# Altium schematic symbol library MF_MiscLib.schlib: 178 symbols (part 1 of 3)
Pins are listed as number, name and electrical type; pins without a type are passive.

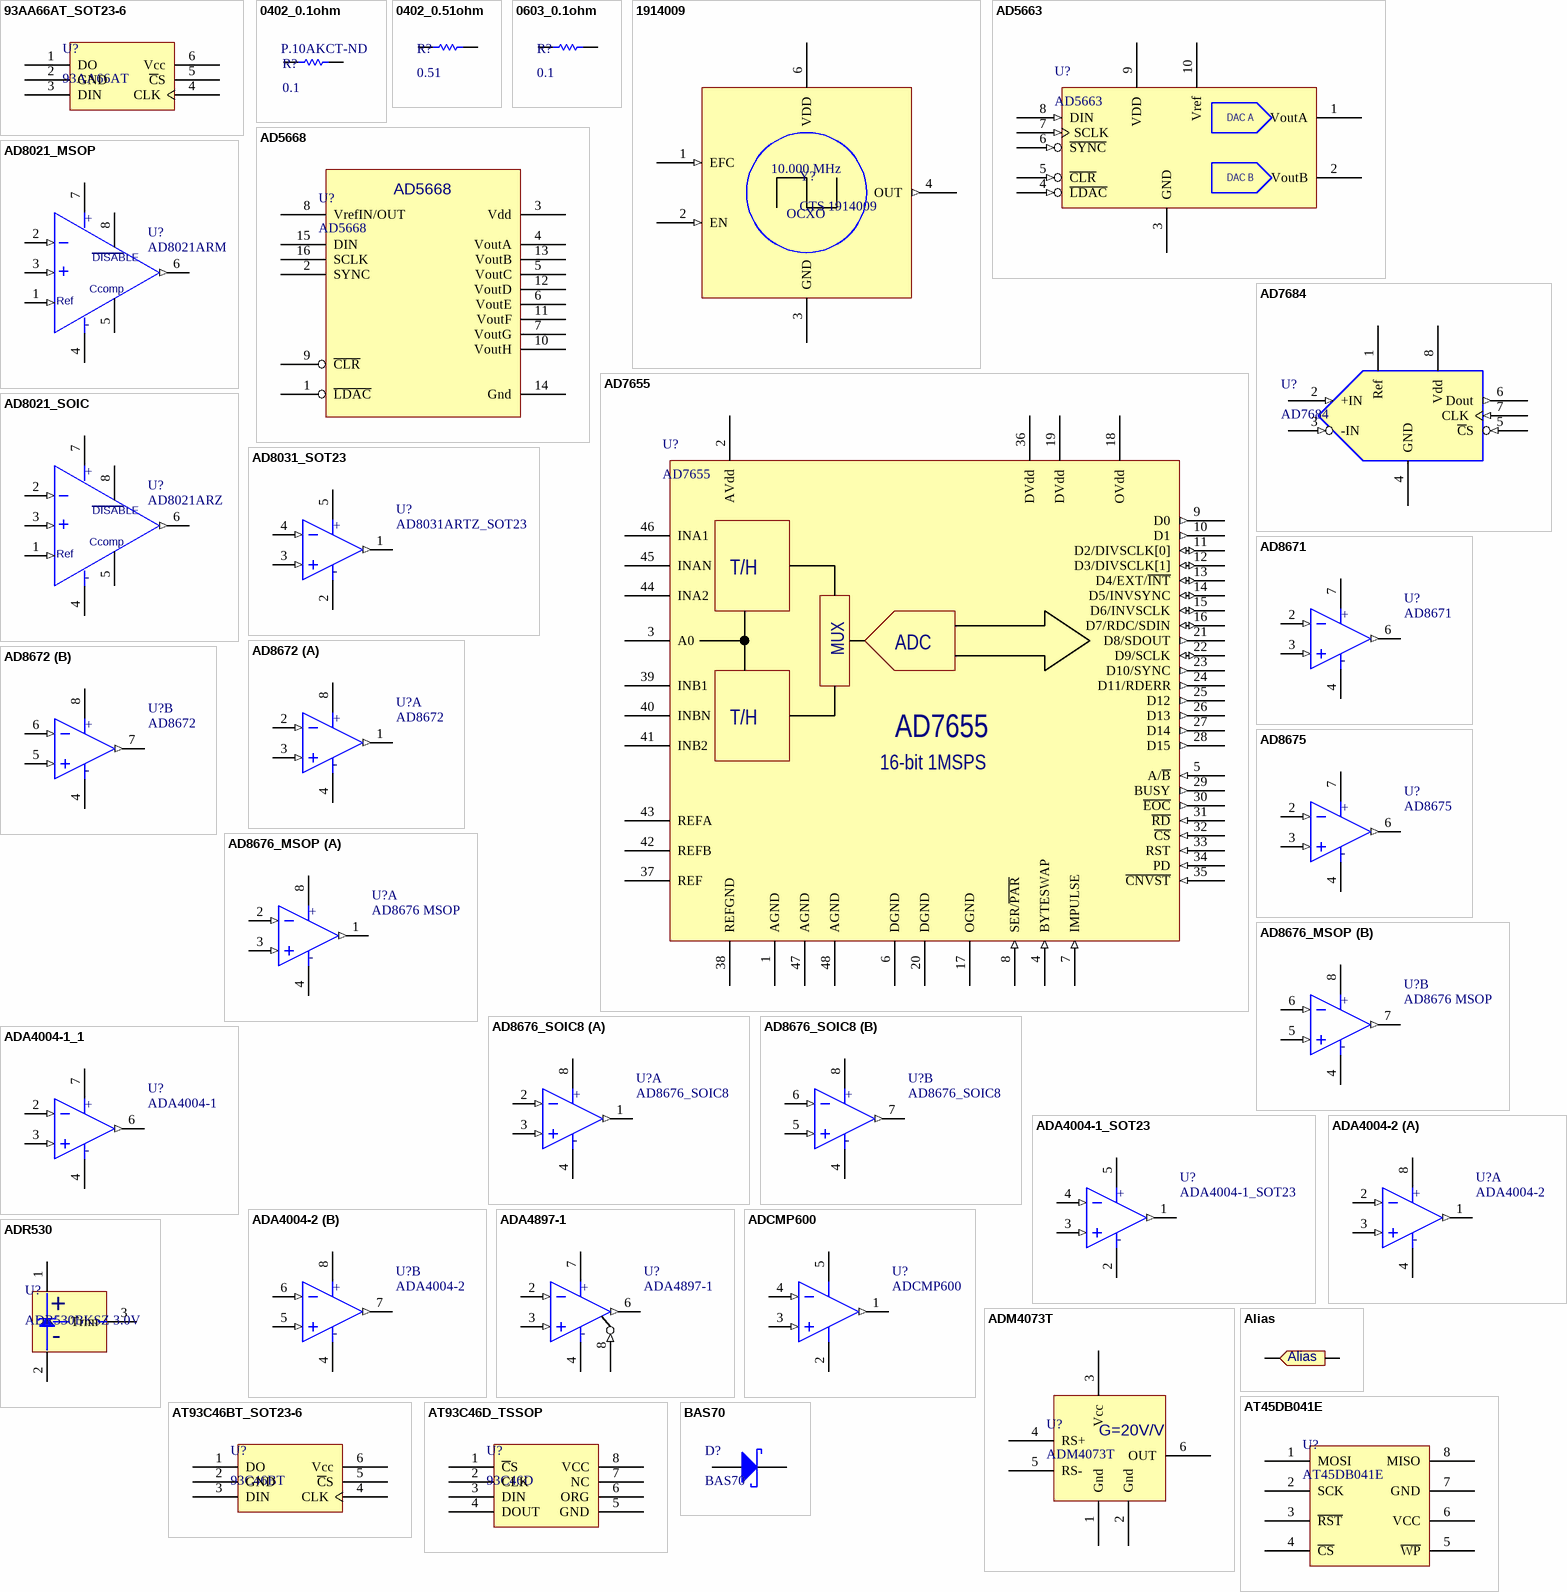
[diagram p0: symbols 93AA66AT_SOT23-6 to BAS70]

## 93AA66AT_SOT23-6
designator U?, comment 93AA66AT
IC EEPROM 4KBIT 2MHZ SOT23-6; Manufacturer: Microchip Technology; Manufacturer PN: 93AA66AT-I/OT; ComponentLink1Description: Datasheet; ComponentLink1URL: http://www.microchip.com/mymicrochip/filehandler.aspx?ddocname=en011819; Supplier 1: Digi-Key; Supplier Part Number 1: 93AA66AT-I/OTCT-ND
footprint SOT-23-OT6_M (SOT23, 6-Leads, Body 2.9x1.7mm, Pitch 0.95mm, Lead Span 2.8mm, IPC Low Density)
pins: 1 DO, 2 GND, 3 DIN, 4 CLK, 5 ~{C}S, 6 Vcc

## 0402_0.1ohm
designator R?, comment 0.1  Supplier Part Number 4: P.10AKCT-ND
RES .1 OHM 1/6W 1% 0402 SMD; Manufacturer: Panasonic; Manufacturer PN: ERJ-2BSFR10X; Value: 0.1; Supplier 1: Arrow; Supplier Part Number 1: 41790361S8773345N1386; Supplier 2: Newark; Supplier Part Number 2: 53W4137; Supplier 3: Allied; Supplier Part Number 3: 70260854; Supplier 4: Digi-Key
footprint RES0402
pins: 1, 2
1 alternate drawing of the same symbol

## 0402_0.51ohm
designator R?, comment 0.51
RES .51 OHM 1/6W 1% 0402 SMD; Manufacturer: Panasonic; Manufacturer PN: ERJ-2BQF5R51X; Value: 0.51; Supplier 1: Arrow; Supplier 2: Digi-Key; Supplier 3: Mouser; Supplier Part Number 1: 41790341S8020934N1386; Supplier Part Number 2: P.51AKCT-ND; Supplier Part Number 3: 667-ERJ-2BQFR51X
footprint RES0402
pins: 1, 2
1 alternate drawing of the same symbol

## 0603_0.1ohm
designator R?, comment 0.1
RES 0.1 OHM 1/10W 1% 0603 SMD; Manufacturer: Panasonic; Manufacturer PN: ERJ-3RSFR10V; Value: 0.1; Supplier 1: Arrow; Supplier Part Number 1: 41791943S7275321N1386; Supplier 2: Digi-Key; Supplier Part Number 2: P.10AJCT-ND; Supplier 3: Allied; Supplier Part Number 3: 70260898; Supplier 4: Newark; Supplier Part Number 4: 15R1445
footprint RES0603 (Chip Resistor, 2-Leads, Body 1.6x0.8mm, IPC Medium Density)
pins: 1, 2
1 alternate drawing of the same symbol

## 1914009
designator Y?, comment CTS 1914009
OCXO 10.000MHz 3.3V 9x14mm; Manufacturer: CTS; Manufacturer PN: 1914009
footprint CTS_OCXO
pins: 1 EFC (in), 2 EN (in), 3 GND (power), 4 OUT (out), 6 VDD (power)
text: 10.000 MHz; OCXO

## AD5663
designator U?
16-bit Dual DAC; Manufacturer: Analog Devices; Manufacturer PN: AD5663ARMZ; Supplier 1: Digi-Key; Supplier Part Number 1: AD5663ARMZ-ND; ComponentLink1URL: http://www.analog.com/static/imported-files/data_sheets/AD5663.pdf; ComponentLink1Description: Datasheet
footprint RM10 (TSSOP, 10-Leads, Body 3.1x3.1mm (max), Pitch 0.50mm, IPC Medium Density)
pins: 1 VoutA, 2 VoutB "Analog Output Voltage from DAC B. The output amplifier has rail-to-rail operation.", 3 GND (power) "Ground Reference Point for All Circuitry on the Part.", 4 ~{LDAC} (in) "Pulsing this pin low allows any or all DAC registers to be updated if the input registers have new data.", 5 ~{CLR} (in) "Asynchronous Clear Input. The CLR input is falling edge sensitive. While CLR is low, all LDAC pulses are ignored.", 6 ~{SYNC} (in) "Active Low Control Input. This is the frame synchronization signal for the input data.", 7 SCLK (in) "Serial Clock Input. Data is clocked into the input shift register on the falling edge of the serial clock input.", 8 DIN (in) "Serial Data Input. This device has a 24-bit shift register. Data is clocked into the register on the falling edge", 9 VDD (power) "Power Supply Input. These parts can be operated from 2.7 V to 5.5 V", 10 Vref "Reference Voltage Input."
text: DAC A; DAC B

## AD5668
designator U?
DAC, Octal 16 bit, Voltage Output, SPI TSSOP-16; Manufacturer: Analog Devices; Manufacturer PN: AD5668BRUZ-1; ComponentLink1Description: Datasheet; ComponentLink1URL: http://www.analog.com/static/imported-files/data_sheets/AD5628_5648_5668.pdf; Supplier 1: Digi-Key; Supplier 2: Arrow; Supplier Part Number 1: AD5668BRUZ-1-ND; Supplier Part Number 2: 42723177S8349773N2771
footprint RU-16 (TSOP, 16-Leads, Body 5.1x4.5mm (max), Pitch 0.65mm, IPC Medium Density)
pins: 1 ~{LDAC}, 2 SYNC, 3 Vdd, 4 VoutA, 5 VoutC, 6 VoutE, 7 VoutG, 8 VrefIN/OUT, 9 ~{CLR}, 10 VoutH, 11 VoutF, 12 VoutD, 13 VoutB, 14 Gnd, 15 DIN, 16 SCLK

## AD7655
designator U?
A/D 4ch 16bit 1MSPS; Manufacturer: Analog Devices; Manufacturer PN: AD7655AST; ComponentLink1URL: http://www.analog.com/static/imported-files/data_sheets/AD7655.pdf; ComponentLink1Description: Datasheet; Supplier 1: Digi-Key; Supplier 2: Newark; Supplier Part Number 1: AD7655ASTZ-ND; Supplier Part Number 2: 19M8843
footprint ADI_ST-48_LQFP48 (LQFP, 48-Leads, Body 9.2x9.2mm (max), Pitch 0.50mm, IPC Medium Density)
pins: 1 AGND (power), 2 AVdd (power), 3 A0, 4 BYTESWAP (in), 5 A/~{B} (in), 6 DGND (power), 7 IMPULSE (in), 8 SER/~{PAR} (in), 9 D0 (out), 10 D1 (out), 11 D2/DIVSCLK[0] (io), 12 D3/DIVSCLK[1] (io), 13 D4/EXT/~{INT} (io), 14 D5/INVSYNC (io), 15 D6/INVSCLK (io), 16 D7/RDC/SDIN (io), 17 OGND (power), 18 OVdd (power), 19 DVdd (power), 20 DGND (power), 21 D8/SDOUT (out), 22 D9/SCLK (io), 23 D10/SYNC (out), 24 D11/RDERR (out), 25 D12 (out), 26 D13 (out), 27 D14 (out), 28 D15 (out), 29 BUSY (out), 30 ~{EOC} (out), 31 ~{RD} (in), 32 ~{CS} (in), 33 RST (in), 34 PD (in), 35 ~{CNVST} (in), 36 DVdd (power), 37 REF, 38 REFGND, 39 INB1, 40 INBN, 41 INB2, 42 REFB, 43 REFA, 44 INA2, 45 INAN, 46 INA1, 47 AGND (power), 48 AGND (power)
text: T/H; MUX; ADC; 16-bit 1MSPS

## AD7684
designator U?
ADC 16-bit 100kSPS; Manufacturer: Analog Devices; Manufacturer PN: AD7684BRMZ; ComponentLink1Description: Datasheet; ComponentLink1URL: http://www.analog.com/static/imported-files/data_sheets/AD7684.pdf; Supplier 1: Digi-Key; Supplier 2: Newark; Supplier Part Number 1: AD7684BRMZ-ND; Supplier Part Number 2: 59K5229
footprint TSOP65P490X95-8N (TSOP, 8-Leads, Body 3.2x2.8mm (max), Pitch 0.65mm, IPC Medium Density)
pins: 1 Ref (power), 2 +IN (in), 3 -IN (in), 4 GND (power), 5 ~{C}S (in), 6 Dout (out), 7 CLK (in), 8 Vdd (power)

## AD8021_MSOP
designator U?, comment AD8021ARM
Op Amp, High speed for 16-bit; Manufacturer: Analog Devices; ComponentLink1Description: Datasheet; ComponentLink1URL: http://www.analog.com/static/imported-files/data_sheets/AD8021.pdf; Manufacturer PN: AD8021ARM
footprint RM-8_MSOP-8
pins: 1 Ref (in), 2 IN- (in), 3 IN+ (in), 4 V- (power), 5 Ccomp, 6 OUT (out), 7 V+ (power), 8 ~{DISABLE}
text: +; DISABLE; -

## AD8021_SOIC
designator U?, comment AD8021ARZ
Op Amp, High speed for 16-bit; Manufacturer: Analog Devices; ComponentLink1Description: Datasheet; ComponentLink1URL: http://www.analog.com/static/imported-files/data_sheets/AD8021.pdf; Manufacturer PN: AD8021ARZ
footprint R-8_M (8-Pin Narrow Body Small Outline Integrated Circuit 1.27 mm Pitch, IPC Low Density)
pins: 1 Ref (in), 2 IN- (in), 3 IN+ (in), 4 V- (power), 5 Ccomp, 6 OUT (out), 7 V+ (power), 8 ~{DISABLE}
text: +; DISABLE; -

## AD8031_SOT23
designator U?, comment AD8031ARTZ_SOT23
Op Amp, 80MHz RRIO, SOT-23; Manufacturer: Analog Devices; ComponentLink1Description: Datasheet; ComponentLink1URL: http://www.analog.com/static/imported-files/data_sheets/AD8031_8032.pdf; Manufacturer PN: AD8031ARTZ; Supplier 1: Newark; Supplier Part Number 1: 23X6279; Supplier 2: Digi-Key; Supplier Part Number 2: AD8031ARTZ-REEL7DKR-ND
footprint RJ5 (SOT23, 5-Leads, Body 3.0x3.0mm (max), Pitch 0.95mm, IPC Medium Density)
pins: 1 OUT (out), 2 V- (power), 3 IN+ (in), 4 IN- (in), 5 V+ (power)
text: +; -

## AD8671
designator U?
Op Amp, Very low noise, Very high precision; ComponentLink1Description: Datasheet; ComponentLink1URL: http://www.analog.com/static/imported-files/data_sheets/AD8671_8672_8674.pdf; Supplier 1: Digi-Key; Supplier 2: Newark; Supplier Part Number 1: AD8671ARZ-ND; Supplier Part Number 2: 19M0998
footprint R-8_M (8-Pin Narrow Body Small Outline Integrated Circuit 1.27 mm Pitch, IPC Low Density)
pins: 2 IN- (in), 3 IN+ (in), 4 V- (power), 6 OUT (out), 7 V+ (power)
text: +; -

## AD8672
designator U?
Op Amp, Dual, Very low noise, Very high precision; ComponentLink1Description: Datasheet; ComponentLink1URL: http://www.analog.com/static/imported-files/data_sheets/AD8671_8672_8674.pdf; Supplier 1: Newark; Supplier 2: Digi-Key; Supplier Part Number 1: 19M0999; Supplier Part Number 2: AD8672ARZ-ND
footprint R-8_M (8-Pin Narrow Body Small Outline Integrated Circuit 1.27 mm Pitch, IPC Low Density)
part A pins: 1 OUTA (out), 2 INA- (in), 3 INA+ (in), 4 V- (power), 8 V+ (power)
part B pins: 4 V- (power), 5 INB+ (in), 6 INB- (in), 7 OUTB (out), 8 V+ (power)
part A text: +; -
part B text: +; -

## AD8675
designator U?
Op Amp, Very low noise, Very high precision; Manufacturer: Analog Devices; Manufacturer PN: AD8675ARZ; ComponentLink1Description: Datasheet; ComponentLink1URL: http://www.analog.com/static/imported-files/data_sheets/AD8675.pdf
footprint R-8_M (8-Pin Narrow Body Small Outline Integrated Circuit 1.27 mm Pitch, IPC Low Density)
pins: 2 IN- (in), 3 IN+ (in), 4 V- (power), 6 OUT (out), 7 V+ (power)
text: +; -

## AD8676_MSOP
designator U?, comment AD8676 MSOP
Op Amp, Dual, Very low noise, Very high precision RM-8; Manufacturer: Analog Devices; Manufacturer PN: AD8676ARMZ; TPN: 167-1013-00; ComponentLink1Description: Datasheet; ComponentLink1URL: http://www.analog.com/static/imported-files/data_sheets/AD8676.pdf; Supplier 1: Digi-Key; Supplier 2: Arrow; Supplier 3: Newark; Supplier Part Number 1: AD8676ARMZ-REELCT-ND; Supplier Part Number 2: 46992726S8254856N2771; Supplier Part Number 3: 45P6471
footprint RM-8_MSOP-8
part A pins: 1 OUTA (out), 2 INA- (in), 3 INA+ (in), 4 V- (power), 8 V+ (power)
part B pins: 4 V- (power), 5 INB+ (in), 6 INB- (in), 7 OUTB (out), 8 V+ (power)
part A text: +; -
part B text: +; -

## AD8676_SOIC8
designator U?
Op Amp, Dual, Very low noise, Very high precision SOIC-8; Manufacturer: Analog Devices; Manufacturer PN: AD8676ARZ; TPN: 167-1013-00; ComponentLink1Description: Datasheet; ComponentLink1URL: http://www.analog.com/static/imported-files/data_sheets/AD8676.pdf; Supplier 1: Newark; Supplier Part Number 1: 28M4146; Supplier 2: Digi-Key; Supplier Part Number 2: AD8676ARZ-ND; Supplier 3: Mouser; Supplier Part Number 3: 584-AD8676ARZ; Supplier 4: Arrow; Supplier Part Number 4: 43007594S9299385N2771
footprint R-8_M (8-Pin Narrow Body Small Outline Integrated Circuit 1.27 mm Pitch, IPC Low Density)
part A pins: 1 OUTA (out), 2 INA- (in), 3 INA+ (in), 4 V- (power), 8 V+ (power)
part B pins: 4 V- (power), 5 INB+ (in), 6 INB- (in), 7 OUTB (out), 8 V+ (power)
part A text: +; -
part B text: +; -

## ADA4004-1_1
designator U?, comment ADA4004-1
Op Amp, Very low noise, Very high precision, SOIC-8; ComponentLink1Description: Datasheet; ComponentLink1URL: http://www.analog.com/static/imported-files/data_sheets/ADA4004-1_4004-2_4004-4.pdf; Supplier 1: Digi-Key; Supplier Part Number 1: ADA4004-1ARZ-ND
footprint R-8_M (8-Pin Narrow Body Small Outline Integrated Circuit 1.27 mm Pitch, IPC Low Density)
pins: 2 IN- (in), 3 IN+ (in), 4 V- (power), 6 OUT (out), 7 V+ (power)
text: +; -

## ADA4004-1_SOT23
designator U?
Op Amp, Very low noise, Very high precision, SOT-23; ComponentLink1Description: Datasheet; ComponentLink1URL: http://www.analog.com/static/imported-files/data_sheets/ADA4004-1_4004-2_4004-4.pdf; Supplier 1: Digi-Key; Supplier Part Number 1: ADA4004-1ARZ-ND
footprint RJ5 (SOT23, 5-Leads, Body 3.0x3.0mm (max), Pitch 0.95mm, IPC Medium Density)
pins: 1 OUT (out), 2 V- (power), 3 IN+ (in), 4 IN- (in), 5 V+ (power)
text: +; -

## ADA4004-2
designator U?
Op Amp, Dual, Very low noise, Very high precision, SOIC-8; ComponentLink1Description: Datasheet; ComponentLink1URL: http://www.analog.com/static/imported-files/data_sheets/AD8671_8672_8674.pdf; Supplier 1: Digi-Key; Supplier 2: Newark; Supplier Part Number 1: ADA4004-2ARZ-ND; Supplier Part Number 2: 34P2953
footprint R-8_M (8-Pin Narrow Body Small Outline Integrated Circuit 1.27 mm Pitch, IPC Low Density)
part A pins: 1 OUTA (out), 2 INA- (in), 3 INA+ (in), 4 V- (power), 8 V+ (power)
part B pins: 4 V- (power), 5 INB+ (in), 6 INB- (in), 7 OUTB (out), 8 V+ (power)
part A text: +; -
part B text: +; -

## ADA4897-1
designator U?
Op Amp, High Speed, Low noise, R2R output; ComponentLink1Description: Datasheet; ComponentLink1URL: http://www.analog.com/static/imported-files/data_sheets/ADA4896-2_4897-1_4897-2.PDF; Supplier 1: Digi-Key; Supplier 2: Newark; Supplier Part Number 1: ADA4897-1ARZ-ND; Supplier Part Number 2: 58T8818
footprint R-8_M (8-Pin Narrow Body Small Outline Integrated Circuit 1.27 mm Pitch, IPC Low Density)
pins: 2 IN- (in), 3 IN+ (in), 4 V- (power), 6 OUT (out), 7 V+ (power), 8 ~{DIS} (in)
text: +; -

## ADCMP600
designator U?
Comparator 3.5ns; ComponentLink1Description: Datasheet; ComponentLink1URL: http://www.analog.com/static/imported-files/data_sheets/ADCMP600_601_602.pdf; Supplier 1: Digi-Key; Supplier 2: Newark; Supplier Part Number 1: ADCMP600BRJZ-REEL7CT-ND; Supplier Part Number 2: 28M3532
footprint RJ5 (SOT23, 5-Leads, Body 3.0x3.0mm (max), Pitch 0.95mm, IPC Medium Density)
pins: 1 OUT (out), 2 GND (power), 3 IN+ (in), 4 IN- (in), 5 VCC (power)

## ADM4073T
designator U?
Precision current sense amplifier SOT23-6 Gain=20V/V +2V-+28V; Manufacturer: Analog Devices; Manufacturer PN: ADM4073TWRJZ; ComponentLink1Description: Datasheet; ComponentLink1URL: http://www.analog.com/static/imported-files/data_sheets/ADM4073.pdf; Supplier 1: Newark; Supplier Part Number 1: 67W2656; Supplier 2: Digi-Key; Supplier Part Number 2: ADM4073TWRJZ-REEL7CT-ND
footprint SOT95P275X110-6N (SOT23, 6-Leads, Body 3.1x3.0mm (max), Pitch 0.95mm, IPC Medium Density)
pins: 1 Gnd, 2 Gnd, 3 Vcc, 4 RS+, 5 RS-, 6 OUT
text: G=20V/V

## ADR530
designator U?, comment ADR530BKSZ 3.0V
VREF SHUNT PREC 3V SC-70-3; Manufacturer: Analog Devices; Manufacturer PN: ADR530BKSZ-REEL7; TPN: 167-0977-00; ComponentLink1Description: Datasheet; ComponentLink1URL: http://www.analog.com/static/imported-files/data_sheets/ADR520_525_530_540_550.pdf; Supplier 1: Arrow; Supplier Part Number 1: 41512011S9645579N2771; Supplier 2: Newark; Supplier Part Number 2: 67W2734; Supplier 3: Digi-Key; Supplier Part Number 3: ADR530BKSZ-REEL7DKR-ND
footprint SOT65P210X110-3N (SOT323/SC-70, 3-Leads, Body 2.2x2.2mm (max), Pitch 0.65mm, IPC Medium Density)
pins: 1 V+, 2 V-, 3 Trim
text: +; -

## Alias
designator A?  (value not drawn)  (net tie, no BOM)
Net Alias
pins: 1, 2

## AT45DB041E
designator U?
SPI Serial Flash 4Mbit
footprint SO8
pins: 1 MOSI, 2 SCK, 3 ~{RST}, 4 ~{CS}, 5 ~{WP}, 6 VCC, 7 GND, 8 MISO

## AT93C46BT_SOT23-6
designator U?, comment 93C46BT
IC EEPROM 1KBIT (64x16) 2MHZ SOT23-6; Manufacturer: Microchip Technology; Manufacturer PN: 93C46BT-I/OT; ComponentLink1Description: Datasheet; ComponentLink1URL: http://ww1.microchip.com/downloads/en/DeviceDoc/21749J.pdf; Supplier 1: Digi-Key; Supplier Part Number 1: 93C46BT-I/OTCT-ND; Supplier 2: Mouser; Supplier Part Number 2: 579-93C46BT-I/OT; Supplier 3: Newark; Supplier Part Number 3: 92C7609
footprint SOT-23-OT6_M (SOT23, 6-Leads, Body 2.9x1.7mm, Pitch 0.95mm, Lead Span 2.8mm, IPC Low Density)
pins: 1 DO, 2 GND, 3 DIN, 4 CLK, 5 ~{C}S, 6 Vcc

## AT93C46D_TSSOP
designator U?, comment 93C46D
IC EEPROM 1KBIT 2MHZ 8TSSOP; Manufacturer: Atmel; Manufacturer PN: AT93C46D-TH-B; ComponentLink1Description: Datasheet; ComponentLink1URL: http://www.atmel.com/Images/doc5193.pdf; Supplier 1: Mouser; Supplier Part Number 1: 556-A93C46DTH-B; Supplier 2: Newark; Supplier Part Number 2: 68T5238; Supplier 3: Digi-Key; Supplier Part Number 3: AT93C46D-TH-B-ND
footprint TSSOP-ST8_M (TSOP, 8-Leads, Body 3x4.4mm, Pitch 0.65mm, IPC Low Density)
pins: 1 ~{C}S, 2 CLK, 3 DIN, 4 DOUT, 5 GND, 6 ORG, 7 NC, 8 VCC

## BAS70
designator D?
Diode, Schottky single small-signal 70V 70mA SOT-23; ComponentLink1Description: Datasheet; ComponentLink1URL: http://www.nxp.com/documents/data_sheet/BAS70_1PS7XSB70_SER.pdf; Supplier 1: Digi-Key; Supplier 2: Newark; Supplier Part Number 1: 568-1608-6-ND; Supplier Part Number 2: 95B7623
footprint SOT23
pins: 1 A, 2 K

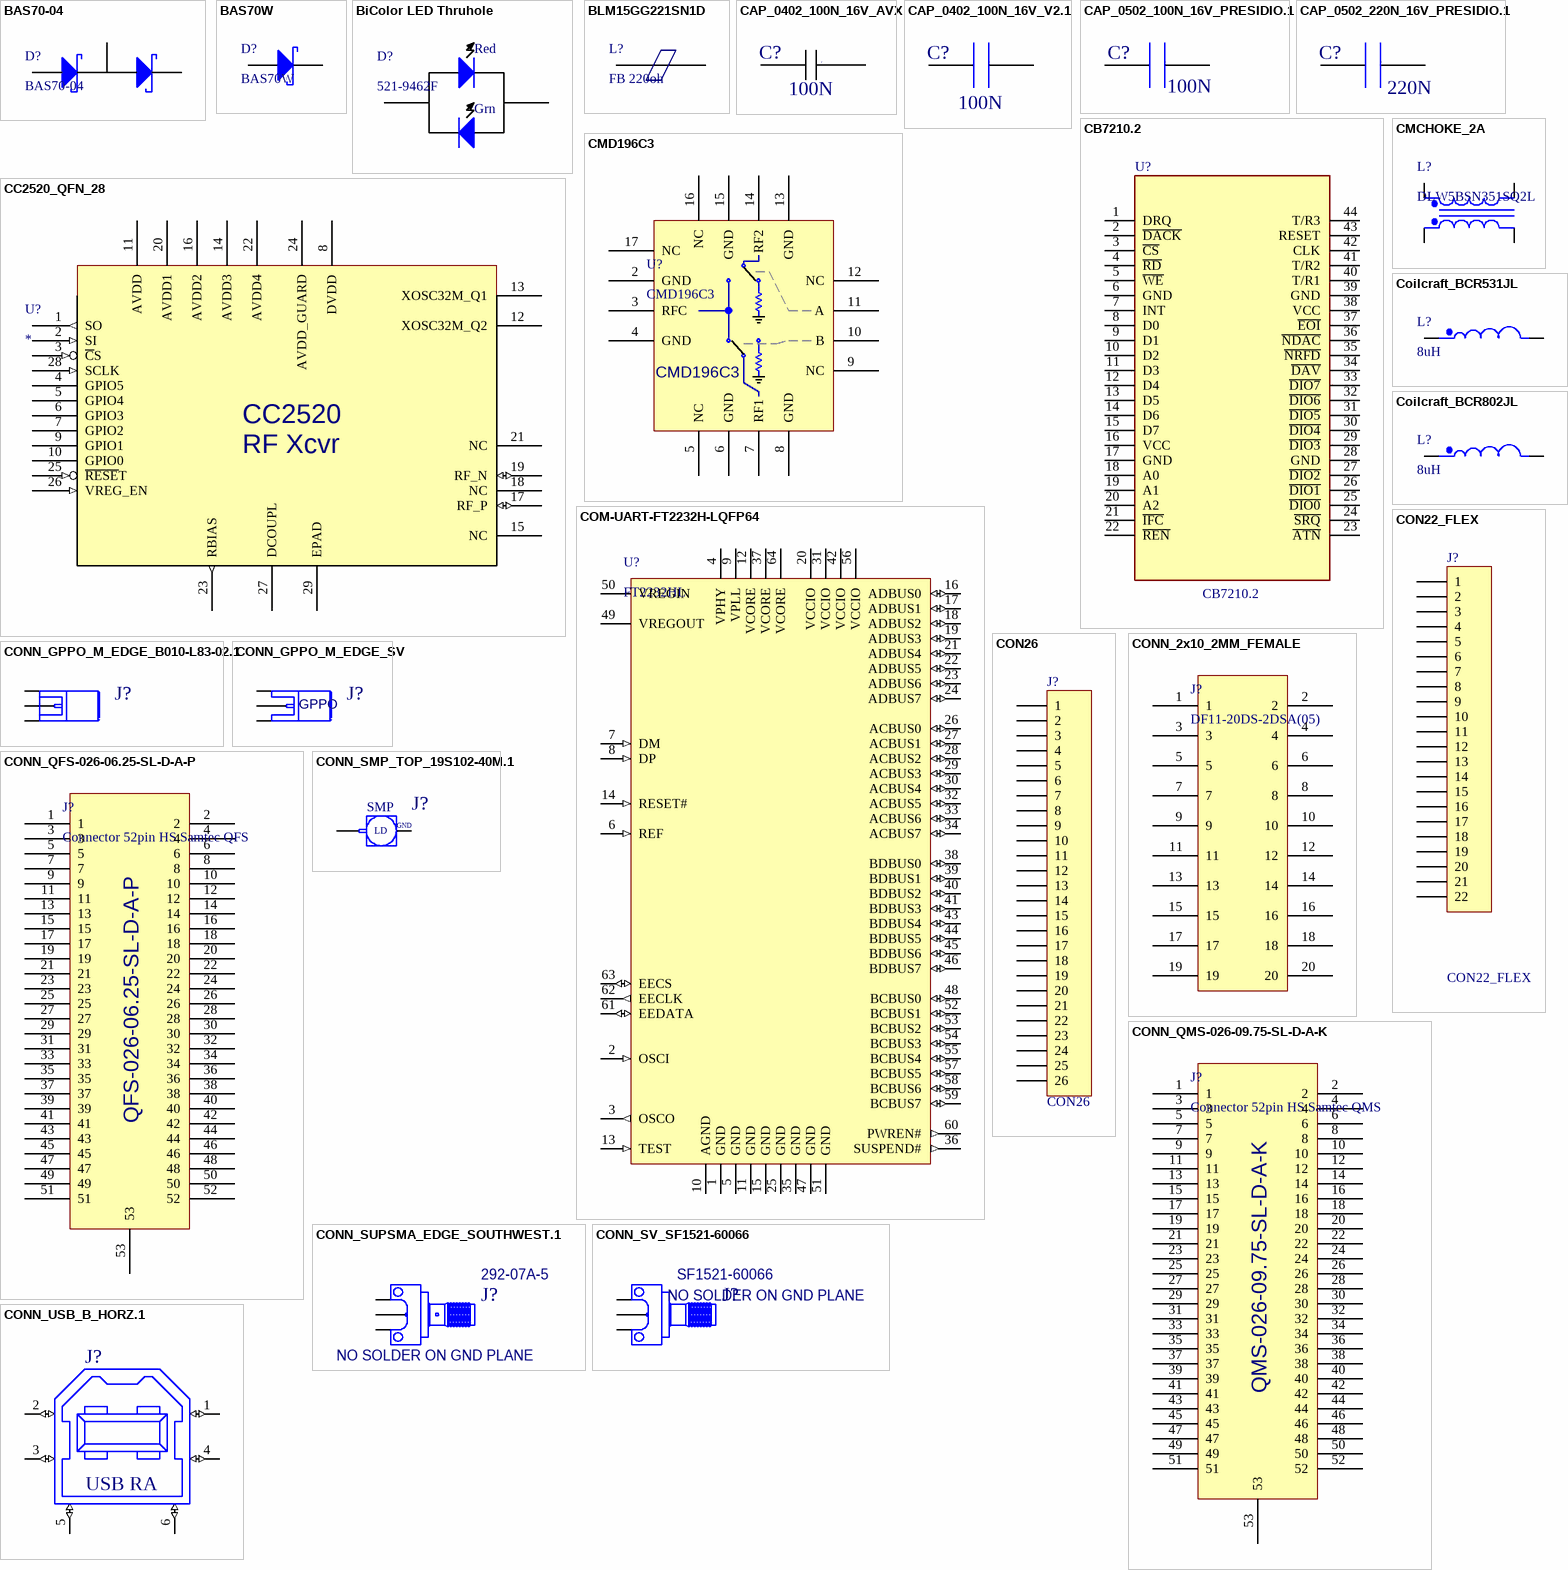
[diagram p1: symbols BAS70-04 to CONN_USB_B_HORZ.1]

## BAS70-04
designator D?
Diode, Schottky dual series small-signal 70V 70mA SOT-23; ComponentLink1Description: Datasheet; ComponentLink1URL: http://www.nxp.com/documents/data_sheet/BAS70_1PS7XSB70_SER.pdf; Supplier 1: Digi-Key; Supplier 2: Newark; Supplier Part Number 1: 568-1605-6-ND; Supplier Part Number 2: 75R4955
footprint SOT23
pins: 1, 2, 3

## BAS70W
designator D?
Diode, Schottky single small-signal SC70 70V 70mA; ComponentLink1Description: Datasheet; ComponentLink1URL: http://www.nxp.com/documents/data_sheet/BAS70_1PS7XSB70_SER.pdf; Supplier 1: Digi-Key; Supplier Part Number 1: BAS70W-FDICT-ND; Supplier 2: Mouser; Supplier Part Number 2: 833-BAS70WT-TP; Supplier 3: Digi-Key; Supplier Part Number 3: 568-6012-6-ND
footprint SOT65P210X110-3N (SOT323/SC-70, 3-Leads, Body 2.2x2.2mm (max), Pitch 0.65mm, IPC Medium Density)
pins: 1 A, 3 K

## BiColor LED Thruhole
designator D?, comment 521-9462F
LED 5MM BICOLOR RED/GREEN DIFF; ComponentLink1Description: Datasheet; ComponentLink1URL: http://www.dialight.com/Assets/Drawings/2D_Drawings_DrawingDetailedSpec/C17453.pdf; Supplier 1: Arrow; Supplier Part Number 1: 41694584S7461561N2231; Supplier 2: Allied; Supplier Part Number 2: 70081693; Supplier 3: Digi-Key; Supplier Part Number 3: 350-2409-ND
pins: 1 A, 1, 1 A, 2 K, 2, 2 K
text: Red; Grn

## BLM15GG221SN1D
designator L?, comment FB 220oh
Ferrite, 220oh, 300mA, 0402; Manufacturer: Murata; Manufacturer PN: BLM15GG221SN1D; ComponentLink1Description: Datasheet; ComponentLink1URL: http://search.murata.co.jp/Ceramy/image/img/PDF/ENG/L0110S0101BLM15G.pdf; Supplier 1: Digi-Key; Supplier 2: Mouser; Supplier 3: Arrow; Supplier Part Number 1: 490-5197-1-ND; Supplier Part Number 2: 81-BLM15GG221SN1D; Supplier Part Number 3: 48298202S8711972N2606
footprint RES0402
pins: 1, 2

## CAP_0402_100N_16V_AVX
designator C?, comment value 100N  (hidden comment: CAP_0402_100N_16V_V2)
CAP 100NF 16V ±10% X7R 0402 AVX GX02; Manufacturer PN: GX02YD104KAT2; SUPP_INFO: 16V, X7R; Manufacturer: AVX; ComponentLink1Description: Datasheet; ComponentLink1URL: http://www.avx.com/docs/catalogs/gx.pdf; Supplier 1: Mouser; Supplier Part Number 1: 581-GX02YD104KAT2; Supplier 2: Allied; Supplier Part Number 2: R1148091; Supplier 3: Digi-Key; Supplier Part Number 3: 478-5671-1-ND; Supplier 4: Newark; Supplier Part Number 4: 91T4965
footprint 0402_HS
pins: 1 N1, 2 N2

## CAP_0402_100N_16V_V2.1
designator C?, comment value 100N  (hidden comment: CAP_0402_100N_16V_V2)
CAP 100NF 16V ±10% X7R 0402 ATC550; Manufacturer PN: ATC550L104KT16T; Manufacturer: ATC; Manufacturer 1: AVX; Manufacturer 1 PN: GX02YD104KAT2; GEOMETRY.HEIGHT: 25; LEAD_FREE_STATUS: LEAD FREE; PKG_TYPE: 0402_HS; ORDER: MODEL$ VALUE$; PREFIX: C; SUPP_INFO: 16V, X7R; NO_LOAD: 0; TPN: 283-1343-00; DEVICE: CAP_0402_100N_16V_V2; ROHS_STATUS: ROHS COMPLIANT; FOOTPRINT: 0402; Supplier 1: ATC; Supplier Part Number 1: ATC550L104KT16T; DESC: CAP 100NF 16V ±10% X7R 0402; Supplier 2: Mouser; Supplier Part Number 2: 581-GX02YD104KAT2; Supplier 3: Newark; Supplier Part Number 3: 91T4965; Supplier 4: Digi-Key; Supplier Part Number 4: 478-5671-1-ND
footprint 0402_HS
pins: 1 N1, 2 N2

## CAP_0502_100N_16V_PRESIDIO.1
designator C?, comment value 100N  (hidden comment: CAP_0502_100N_16V_PRESIDIO)
CAP 100NF 16V X7R 0502 PRESIDIO; VENDOR: NA; MFG_PN: BB0502X7R104M16VP820; GEOMETRY.HEIGHT: 10; PKG_TYPE: 0502; ORDER: MODEL$ VALUE$; PREFIX: C; NO_LOAD: 0; DEVICE: CAP_0502_100N_16V_PRESIDIO; ROHS_STATUS: N/A; LEAD_FREE_STATUS: N/A; FOOTPRINT: 0502; VENDOR_PN: NA; MFG: PRESIDIO; DESC: CAP 100NF 16V X7R 0502
footprint 0502_HS
pins: 1 N1, 2 N2

## CAP_0502_220N_16V_PRESIDIO.1
designator C?, comment value 220N  (hidden comment: CAP_0502_220N_16V_PRESIDIO)
CAP 220NF 16V +30-20% Y5V 0502 PRESIDIO; GEOMETRY.HEIGHT: 35; LEAD_FREE_STATUS: LEAD FREE; CTX_PN: 11220-041; VENDOR_PN: LBB0502Y2249GP1R8B; PKG_TYPE: 0502_HS; ORDER: MODEL$ VALUE$; PREFIX: C; SUPP_INFO: 16V, Y5V; NO_LOAD: 0; DEVICE: CAP_0502_220N_16V_PRESIDIO; ROHS_STATUS: ROHS COMPLIANT; FOOTPRINT: 0502_HS; VENDOR: PRESIDIO; MFG_PN: LBB0502Y2249GP1R8B; MFG: PRESIDIO; DESC: CAP 220NF 16V +30-20% Y5V 0502
footprint 0502_HS
pins: 1 N1, 2 N2

## CB7210.2
designator U?
Part Field 1: GPIB Interface controller; Part Field 2: Measurement Computing CB7210.2  TQFP44
footprint TQFP44
footprint QFP44-2
pins: 1 DRQ, 2 ~{DACK}, 3 ~{CS}, 4 ~{RD}, 5 ~{WE}, 6 GND, 7 INT, 8 D0, 9 D1, 10 D2, 11 D3, 12 D4, 13 D5, 14 D6, 15 D7, 16 VCC, 17 GND, 18 A0, 19 A1, 20 A2, 21 ~{IFC}, 22 ~{REN}, 23 ~{ATN}, 24 ~{SRQ}, 25 ~{DIO0}, 26 ~{DIO1}, 27 ~{DIO2}, 28 GND, 29 ~{DIO3}, 30 ~{DIO4}, 31 ~{DIO5}, 32 ~{DIO6}, 33 ~{DIO7}, 34 ~{DAV}, 35 ~{NRFD}, 36 ~{NDAC}, 37 ~{EOI}, 38 VCC, 39 GND, 40 T/R1, 41 T/R2, 42 CLK, 43 RESET, 44 T/R3

## CC2520_QFN_28
designator U?
RF Xcvr 2.4GHz 802.15.4/Zigbee; Manufacturer: Texas Instruments; Manufacturer PN: CC2520RHDT; ComponentLink1URL: http://www.ti.com/lit/gpn/CC2520; ComponentLink1Description: Datasheet; Supplier 1: Digi-Key; Supplier Part Number 1: 296-22996-6-ND; Supplier 2: Newark; Supplier Part Number 2: 72M7124
footprint QFN50P500X500X100-28N (QFN, 28-Leads, Body 5.2x5.2mm (max), Pitch 0.50mm, IPC Medium Density)
pins: 1 SO (out), 2 SI (in), 3 ~{C}S (in), 4 GPIO5 (power), 5 GPIO4 (power), 6 GPIO3 (power), 7 GPIO2 (power), 8 DVDD (power), 9 GPIO1 (power), 10 GPIO0 (power), 11 AVDD (power), 12 XOSC32M_Q2, 13 XOSC32M_Q1, 14 AVDD3 (power), 15 NC, 16 AVDD2 (power), 17 RF_P (io), 18 NC, 19 RF_N (io), 20 AVDD1 (power), 21 NC, 22 AVDD4 (power), 23 RBIAS (out), 24 AVDD_GUARD (power), 25 ~{RESE}T (in), 26 VREG_EN (in), 27 DCOUPL (power), 28 SCLK (in), 29 EPAD (power)
text: CC2520; RF Xcvr

## CMCHOKE_2A
designator L?, comment DLW5BSN351SQ2L
CHOKE COMMON MODE 350 OHM 2020 2A; Manufacturer: Murata; Manufacturer PN: DLW5BSN351SQ2L; ComponentLink1Description: Datasheet; ComponentLink1URL: http://search.murata.co.jp/Ceramy/image/img/PDF/ENG/L0114S0134DLW5AH~DLW5BS.pdf; Supplier 1: Newark; Supplier Part Number 1: 74M0685; Supplier 2: Arrow; Supplier Part Number 2: 5428178S3465317N2606; Supplier 3: Digi-Key; Supplier Part Number 3: 490-1071-1-ND
footprint CMCHOKE_DL5BS (Murata common mode choke)
pins: 1 sec+, 2 Sec-, 3 Pri-, 4 Pri+

## CMD196C3
designator U?
DC-18GHz SPDT Non-reflective switch QFN 3x3; Manufacturer: Custom MMIC; TPN: 167-3249-00; Manufacturer PN: CMD196C3; ComponentLink1Description: Datasheet; ComponentLink1URL: http://www.custommmic.com/datasheets/CMD196C3_ver_1_1_0814.pdf
footprint CUSTOMMMIC_3X3QFN (CUSTOM MMIC 3x3 QFN 16 PIN)
pins: 2 GND, 3 RFC, 4 GND, 5 NC, 6 GND, 7 RF1, 8 GND, 9 NC, 10 B, 11 A, 12 NC, 13 GND, 14 RF2, 15 GND, 16 NC, 17 NC

## Coilcraft_BCR531JL
designator L?, comment 8uH
Coil, Conical 0.53uH 0.15oh DCR 1060mA 40GHz; Manufacturer: Coilcraft; Manufacturer PN: BCR-531JL; TPN: 108-1874-00; ComponentLink1Description: Datasheet; ComponentLink1URL: http://www.coilcraft.com/pdfs/bcr.pdf; Imax: 1060mA; DCR: 0.15oh; Value: 0.53uH
footprint Coilcraft_Conical_Medium
pins: 1, 2

## Coilcraft_BCR802JL
designator L?, comment 8uH
Coil, Conical 8uH 3.39oh DCR 230mA 40GHz; Manufacturer: Coilcraft; Manufacturer PN: BCR-802JL; TPN: 108-1812-00; ComponentLink1Description: Datasheet; ComponentLink1URL: http://www.coilcraft.com/pdfs/bcr.pdf; Imax: 230mA; DCR: 3.39oh; Value: 8uH
footprint Coilcraft_Conical_Medium
pins: 1, 2

## COM-UART-FT2232H-LQFP64
designator U?, comment FT2232HL
IC USB HS DUAL UART/FIFO 64-LQFP; Manufacturer: FTDI; Manufacturer PN: FT2232HL; ComponentLink1Description: Datasheet; ComponentLink1URL: http://www.ftdichip.com/Support/Documents/DataSheets/ICs/DS_FT2232H.pdf; Supplier 1: Newark; Supplier Part Number 1: 80P4235; Supplier 2: Arrow; Supplier Part Number 2: 53396169S27578N4933; Supplier 3: Digi-Key; Supplier Part Number 3: 768-1024-1-ND
footprint LQFP-64_M (Thin QFP, 64-Leads, Body 10x10mm, Pitch 0.5mm, IPC Low Density)
pins: 1 GND (power), 2 OSCI (in), 3 OSCO (out), 4 VPHY (power), 5 GND (power), 6 REF (in), 7 DM (in), 8 DP (in), 9 VPLL (power), 10 AGND (power), 11 GND (power), 12 VCORE (power), 13 TEST (in), 14 RESET# (in), 15 GND (power), 16 ADBUS0 (io), 17 ADBUS1 (io), 18 ADBUS2 (io), 19 ADBUS3 (io), 20 VCCIO (power), 21 ADBUS4 (io), 22 ADBUS5 (io), 23 ADBUS6 (io), 24 ADBUS7 (io), 25 GND (power), 26 ACBUS0 (io), 27 ACBUS1 (io), 28 ACBUS2 (io), 29 ACBUS3 (io), 30 ACBUS4 (io), 31 VCCIO (power), 32 ACBUS5 (io), 33 ACBUS6 (io), 34 ACBUS7 (io), 35 GND (power), 36 SUSPEND# (out), 37 VCORE (power), 38 BDBUS0 (io), 39 BDBUS1 (io), 40 BDBUS2 (io), 41 BDBUS3 (io), 42 VCCIO (power), 43 BDBUS4 (io), 44 BDBUS5 (io), 45 BDBUS6 (io), 46 BDBUS7 (io), 47 GND (power), 48 BCBUS0 (io), 49 VREGOUT (power), 50 VREGIN (power), 51 GND (power), 52 BCBUS1 (io), 53 BCBUS2 (io), 54 BCBUS3 (io), 55 BCBUS4 (io), 56 VCCIO (power), 57 BCBUS5 (io), 58 BCBUS6 (io), 59 BCBUS7 (io), 60 PWREN# (out), 61 EEDATA (io), 62 EECLK (out), 63 EECS (io), 64 VCORE (power)

## CON22_FLEX
designator J?
CONN FPC 22POS 1MM RT ANG SMD FOR FLEX CKT; Manufacturer: TE Connectivity; Manufacturer PN: 2-84953-2; ComponentLink1Description: Datasheet; ComponentLink1URL: http://www.te.com/commerce/DocumentDelivery/DDEController?Action=srchrtrv&DocNm=84953&DocType=Customer+Drawing&DocLang=English; Supplier 1: Digi-Key; Supplier Part Number 1: A101409DKR-ND; Supplier 2: Newark; Supplier Part Number 2: 17R8725; Supplier 3: Mouser; Supplier Part Number 3: 571-2-84953-2; Supplier 4: Arrow; Supplier Part Number 4: 42530600S9100194N5665
footprint CONN22_FLEX (TE Connectivity 2-84953-2 22 pin Flex circuit connector)
pins: 1, 2, 3, 4, 5, 6, 7, 8, 9, 10, 11, 12, 13, 14, 15, 16, 17, 18, 19, 20, 21, 22
1 alternate drawing of the same symbol

## CON26
designator J?
Connector; ComponentLink1Description: Datasheet; ComponentLink1URL: http://www.l-com.com/Redirect.aspx?file=%7e%2fmultimedia%2feng_drawings%2fCIB24SRA.pdf; Supplier 1: Newark; Supplier Part Number 1: 89M8283
footprint GPIB24RT
pins: 1, 2, 3, 4, 5, 6, 7, 8, 9, 10, 11, 12, 13, 14, 15, 16, 17, 18, 19, 20, 21, 22, 23, 24, 25, 26
1 alternate drawing of the same symbol

## CONN_2x10_2MM_FEMALE
designator J?, comment DF11-20DS-2DSA(05)
20 Position Receptacle Connector 0.079" (2.00mm) Through Hole Tin
footprint CONN_2MM_2x10
pins: 1, 2, 3, 4, 5, 6, 7, 8, 9, 10, 11, 12, 13, 14, 15, 16, 17, 18, 19, 20

## CONN_GPPO_M_EDGE_B010-L83-02.1
designator J?, comment CONN_GPPO_M_EDGE_B010-L83-02  (value not drawn)
CONN GPPO PCEDGE GILBERT FD 0.012" PIN; VENDOR: CORNING; GEOMETRY.HEIGHT: 70; MFG: CORNING GILBERT; DESC: CONN GPPO PCEDGE MOUNT FD 0.012" PIN; CTX_PN: 12211-031; NO_LOAD: 0; DEVICE: CONN_GPPO_M_EDGE_B010-L83-02; ROHS_STATUS: ROHS COMPLIANT; LEAD_FREE_STATUS: N/A; FOOTPRINT: CONN_GPPO_M_EDGE; VALUE: N/A; VENDOR_PN: B010-L83-02; PKG_TYPE: CONN_GPPO_M_EDGE; MFG_PN: B010-L83-02
footprint CONN_GPPO_M_EDGE
pins: 1 S1, 2 G1, 2 G2

## CONN_GPPO_M_EDGE_SV
designator J?  (value not drawn)
CONN GPPO PCEDGE SV FD 0.012" PIN; MFG: SV Microwave; MFG_PN: 3285-6001; ROHS_STATUS: ROHS COMPLIANT; Supplier 1: SV Microwave; Supplier Part Number 1: SV Microwave
footprint GPPO_SV_EDGELAUNCH
pins: 1 S1, 2 G1, 2 G2
text: GPPO

## CONN_QFS-026-06.25-SL-D-A-P
designator J?, comment Connector 52pin HS Samtec QFS
Samtec QFS-026-06.25-SL-D-A-P; TPN: 131-9081-00; Manufacturer: Samtec; Manufacturer PN: QFS-026-06.25-SL-D-A-P; Supplier 1: Newark; Supplier Part Number 1: 96P2179
footprint QFS-026-01-X-D-A (0.635mm pitch, 52 pin, rugged high speed socket)
pins: 1, 2, 3, 4, 5, 6, 7, 8, 9, 10, 11, 12, 13, 14, 15, 16, 17, 18, 19, 20, 21, 22, 23, 24, 25, 26, 27, 28, 29, 30, 31, 32, 33, 34, 35, 36, 37, 38, 39, 40, 41, 42, 43, 44, 45, 46, 47, 48, 49, 50, 51, 52, 53

## CONN_QMS-026-09.75-SL-D-A-K
designator J?, comment Connector 52pin HS Samtec QMS
Samtec QMS-026-09.75-SL-D-A-K; TPN: 131-9080-00; Manufacturer: Samtec; Manufacturer PN: QMS-026-09.75-SL-D-A-K; Supplier 1: Newark; Supplier Part Number 1: 96P2460
footprint QMS-026-XX-X-D-A-X (0.635mm pitch, 52 pin, rugged high speed terminal)
pins: 1, 2, 3, 4, 5, 6, 7, 8, 9, 10, 11, 12, 13, 14, 15, 16, 17, 18, 19, 20, 21, 22, 23, 24, 25, 26, 27, 28, 29, 30, 31, 32, 33, 34, 35, 36, 37, 38, 39, 40, 41, 42, 43, 44, 45, 46, 47, 48, 49, 50, 51, 52, 53

## CONN_SMP_TOP_19S102-40M.1
designator J?, comment CONN_SMP_TOP_19S102-40ML5  (value not drawn)
CONN SMP MALE STRAIGHT LIMITEDDETENT SMD; Manufacturer: ROSENBERGER; tpn: 131-9066-00; Manufacturer PN: 19S102-40ML5; ComponentLink1URL: http://rosenberger.de/ok/images/documents/db/19S102-40ML5.pdf; ComponentLink1Description: Datasheet
footprint SMP_19S101-40M
pins: 1 S1, 2 G1 (power)
text: SMP; LD; GND

## CONN_SUPSMA_EDGE_SOUTHWEST.1
designator J?, comment SPECIAL INSTRUCTIONS: NO SOLDER ON GND PLANE  Manufacturer PN: 292-07A-5  (hidden comment: CONN_SUPSMA_EDGE_SOUTHWEST)
CONN SUPER SMA 27GHZ 5mil Pin END LAUNCH; Manufacturer: Southwest Microwave; ComponentLink1Description: Catalog; ComponentLink1URL: http://mpd.southwestmicrowave.com/products/endLaunch.php
footprint CONN_SUPSMA_EDGE_RO8MIL
pins: 1 G1, 2 S1, 3 G2

## CONN_SV_SF1521-60066
designator J?, comment SPECIAL INSTRUCTIONS: NO SOLDER ON GND PLANE  Manufacturer PN: SF1521-60066  (hidden comment: CONN_SV_SF1521_6066)
CONN 2.92mm  27GHZ 5mil Pin END LAUNCH; Manufacturer: SV Microwave; ComponentLink1Description: Drawing; ComponentLink1URL: http://www.svmicrowave.com/index.cfm?fuseaction=productsearch.deliverPDF&item=SF1521-60066
footprint CONN_SV_SUPSMA_EDGE_10MILRO3003 (SV Microwave SF1521-60066 Edge launch on RO3003 10mil)
pins: 1 S1, 2 G1, 3 G2

## CONN_USB_B_HORZ.1
designator J?, comment CONN_USB_B_RA  (value not drawn)
CONN RCPT USB TYPE B R/A PCB; Manufacturer PN: 61729-0010BLF; Manufacturer: FCI; GEOMETRY.HEIGHT: 435; ComponentLink1Description: Datasheet; ComponentLink1URL: http://portal.fciconnect.com/Comergent//fci/drawing/61729.pdf; Supplier 1: Mouser; Supplier Part Number 1: 649-61729-0010BLF; Supplier 2: Digi-Key; Supplier Part Number 2: 609-1039-ND; Supplier 3: Newark; Supplier Part Number 3: 62K6482; Supplier 4: Allied; Supplier Part Number 4: 70236836
footprint CONN_USB_B_RA
pins: 1 (io), 2 (io), 3 (io), 4 (io), 5 (io), 6 (io)
text: USB RA

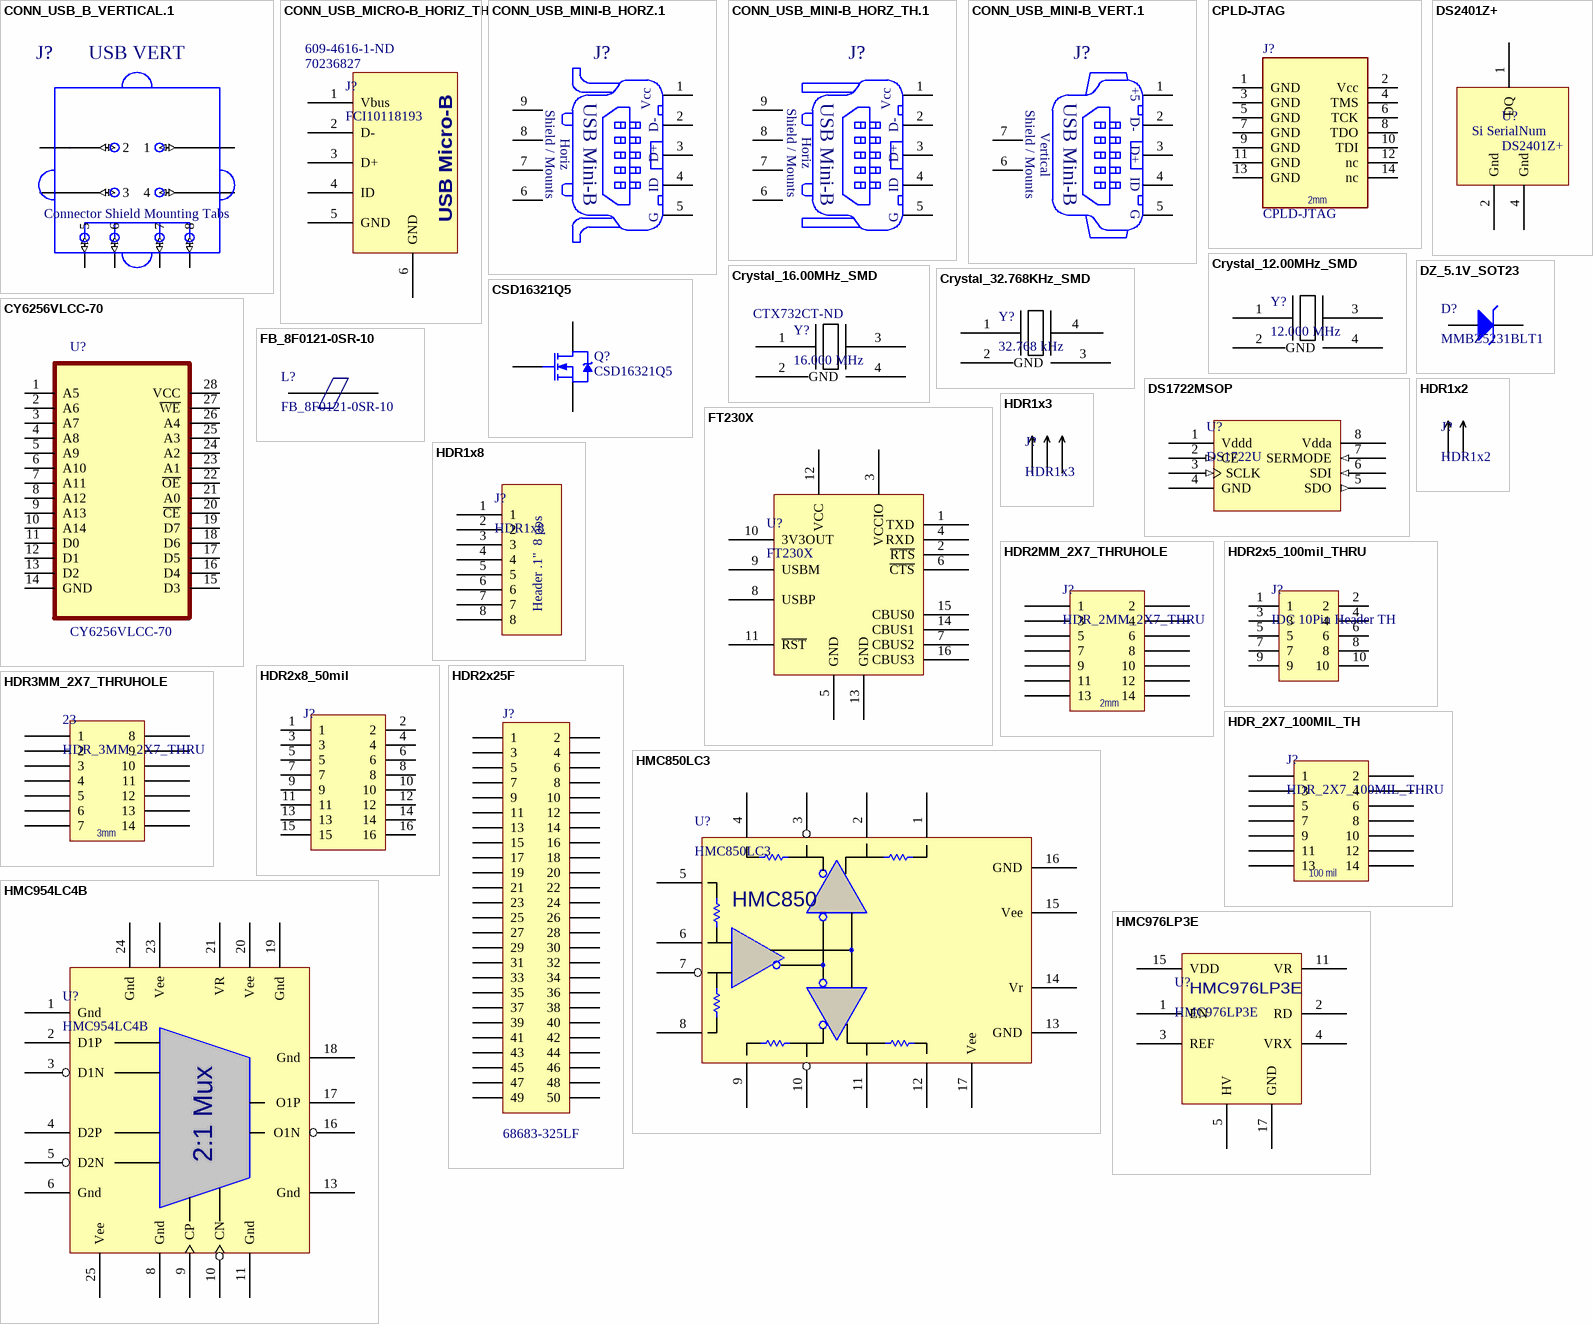
[diagram p2: symbols CONN_USB_B_VERTICAL.1 to HMC976LP3E]

## CONN_USB_B_VERTICAL.1
designator J?, comment CONN_USB_B_VERTICAL  (value not drawn)
CONN USB VERT RECEPT TYPE B BLK; Manufacturer PN: 67265-2001; Manufacturer: MOLEX/WALDOM; ROHS_STATUS: ROHS COMPLIANT; ComponentLink1Description: Datasheet; ComponentLink1URL: http://www.molex.com/pdm_docs/sd/672652001_sd.pdf; Supplier 1: Mouser; Supplier Part Number 1: 538-67265-2001; Supplier 2: Digi-Key; Supplier Part Number 2: WM18716-ND; Supplier 3: Newark; Supplier Part Number 3: 93M1927
footprint CONN_USB_B
pins: 1 (io), 2 (io), 3 (io), 4 (io), 5 (io), 6 (io), 7 (io), 8 (io)
text: USB VERT; Connector Shield Mounting Tabs

## CONN_USB_MICRO-B_HORIZ_TH
designator J?, comment FCI10118193  Supplier Part Number 1: 70236827  Supplier Part Number 2: 609-4616-1-ND
Connector Receptacle USB - micro B 2.0 5 Position Surface Mount, Right Angle, Horizontal; Manufacturer: FCI; Manufacturer PN: 10118193-0001LF; Supplier 1: Allied; Supplier 2: Digi-Key
footprint FCI_10118193 (USB MICRO-B FEMALE TH GND)
pins: 1 Vbus, 2 D-, 3 D+, 4 ID, 5 GND, 6 GND
text: USB Micro-B

## CONN_USB_MINI-B_HORZ.1
designator J?, comment CONN_USB_MINI-B_HORZ  (value not drawn)
CONN USB MINI-B 5PIN HORIZONTAL SMT; Manufacturer PN: UX60-MB-5ST; Manufacturer: HIROSE ELECTRIC; GEOMETRY.HEIGHT: 160; LEAD_FREE_STATUS: LEAD FREE; ROHS_STATUS: ROHS COMPLIANT; PKG_TYPE: CONN_USB_MINI-B_HORZ; Supplier 1: Mouser; Supplier Part Number 1: 798-UX60-MB-5ST; Supplier 2: Digi-Key; Supplier Part Number 2: H2959CT-ND
footprint CONN_USB_MINI-B_HORZ
pins: 1 (power), 2, 3, 4, 5 (power), 6 (power), 7 (power), 8 (power), 9 (power)
text: Vcc; D-; Shield / Mounts; Horiz; USB Mini-B; D+; ID; G

## CONN_USB_MINI-B_HORZ_TH.1
designator J?, comment CONN_USB_MINI-B_HORZ_TH  (value not drawn)
CONN USB MINI-B 5PIN HORIZ SMT+TH; Manufacturer PN: UX60-MB-5S8; Manufacturer: HIROSE ELECTRIC; GEOMETRY.HEIGHT: 155; ROHS_STATUS: ROHS COMPLIANT; Supplier 1: Mouser; Supplier Part Number 1: 798-UX60-MB-5S8; Supplier 2: Digi-Key; Supplier Part Number 2: H2960CT-ND
footprint CONN_USB_MINI-B_HORZ_TH
pins: 1 (power), 2, 3, 4, 5 (power), 6 (power), 7 (power), 8 (power), 9 (power)
text: Vcc; D-; Shield / Mounts; Horiz; USB Mini-B; D+; ID; G

## CONN_USB_MINI-B_VERT.1
designator J?, comment CONN_USB_MINI-B_VERT  (value not drawn)
CONN USB MINI-B 5PIN VERTICAL; Manufacturer PN: 651005136421; Manufacturer: Wurth Electronics; GEOMETRY.HEIGHT: 365; LEAD_FREE_STATUS: LEAD FREE; ROHS_STATUS: ROHS COMPLIANT; Supplier 1: Newark; Supplier Part Number 1: 12T8884; Supplier 2: Digi-Key; Supplier Part Number 2: 732-2735-ND; Supplier 3: Mouser; Supplier Part Number 3: 710-651005136421
footprint CONN_USB_MINI-B_VERT
pins: 1 (power), 2, 3, 4, 5 (power), 6 (power), 7 (power)
text: +5; D-; Shield / Mounts; Vertical; USB Mini-B; D+; ID; G

## CPLD-JTAG
designator J?
Part Field 1: Connector, 14 shrouded header; Part Field 2: MOLEX 87832-1420; Part Field 3: WM18641-ND
footprint HDR_2MM_2X7_THRU (Header 2mm 14-pin thru hole)
pins: 1 GND, 2 Vcc, 3 GND, 4 TMS, 5 GND, 6 TCK, 7 GND, 8 TDO, 9 GND, 10 TDI, 11 GND, 12 nc, 13 GND, 14 nc
text: 2mm

## Crystal_12.00MHz_SMD
designator Y?, comment 12.000 MHz
CRYSTAL 12.0MHZ 18PF PARALLEL SMD +/-50PPM; Manufacturer: CTS-Frequency Controls; Manufacturer PN: 403C35D12M00000; ComponentLink1Description: Datasheet; ComponentLink1URL: http://www.ctscorp.com/components/Datasheets/008-0288-0_F.pdf; Supplier 1: Arrow; Supplier Part Number 1: 53479388S81693N9812; Supplier 2: Digi-Key; Supplier Part Number 2: CTX839CT-ND
footprint CRYSTAL_SMD_3.2x2.5 (CTS Model 403 Crystal 3.2mm x 2.5mm)
pins: 1, 2 GND, 3, 4

## Crystal_16.00MHz_SMD
designator Y?, comment 16.000 MHz  Supplier Part Number 1: CTX732CT-ND
CRYSTAL 16.0MHZ 20PF,80ohm PARALLEL SMD +/-10PPM; Manufacturer: CTS-Frequency Controls; Manufacturer PN: 403C11E16M00000; ComponentLink1Description: Datasheet; ComponentLink1URL: http://www.ctscorp.com/wp-content/uploads/403.pdf; CL: 20pf; Rm: 80 ohm; Supplier 1: Digi-Key
footprint CRYSTAL_SMD_3.2x2.5 (CTS Model 403 Crystal 3.2mm x 2.5mm)
pins: 1, 2 GND, 3, 4

## Crystal_32.768KHz_SMD
designator Y?, comment 32.768 kHz
CRYSTAL 32.768KHz 12.5PF PARALLEL SMD +/-20PPM; Manufacturer: Cardinal Components; Manufacturer PN: CPFBZ-A2C5-32.768KD12.5; ComponentLink1Description: Datasheet; ComponentLink1URL: http://www.cardinalxtal.com/uploads/files/cpfb.pdf; Supplier 1: Digi-Key; Supplier Part Number 1: 370-1058-1-ND
footprint XTAL_32kHz (Cardinal CPFB)
pins: 1, 2 GND, 3, 4

## CSD16321Q5
designator Q?
N-Channel Power MOSFET; PackageReference: TO-220AB; Code_JEDEC: SON5x6; ComponentLink1Description: Manufacturer Link; ComponentLink1URL: http://www.ti.com/lit/ds/symlink/csd16321q5.pdf; Supplier Part Number 1: 296-24517-1-ND; Supplier 1: Digi-Key
footprint SON5X6 (QFN, 8-Leads, Body 5.1x6.1mm (max), Pitch 1.27mm, IPC Medium Density)
pins: 1 S, 4 G, 8 D

## CY6256VLCC-70
designator U?
SRAM 32Kx8; Part Field 1: SRAM 32Kx8 70ns 3.3V; Part Field 2: CYPRESS CY62256VLL-70ZXC; Part Field 3: 428-1751-5-ND; Part Field 4: 2.40; Part Field 5: 1.62
footprint SOP28
pins: 1 A5, 2 A6, 3 A7, 4 A8, 5 A9, 6 A10, 7 A11, 8 A12, 9 A13, 10 A14, 11 D0, 12 D1, 13 D2, 14 GND, 15 D3, 16 D4, 17 D5, 18 D6, 19 D7, 20 ~{CE}, 21 A0, 22 ~{OE}, 23 A1, 24 A2, 25 A3, 26 A4, 27 ~{WE}, 28 VCC

## DS1722MSOP
designator U?, comment DS1722U
IC THERMOMETER DIG 3-WIRE 8-MSOP; Manufacturer: Maxim; Manufacturer PN: DS1722U+; ComponentLink1Description: Datasheet; ComponentLink1URL: http://datasheets.maximintegrated.com/en/ds/DS1722.pdf; Supplier 1: Mouser; Supplier Part Number 1: 700-DS1722U; Supplier 2: Allied; Supplier Part Number 2: R1035628; Supplier 3: Digi-Key; Supplier Part Number 3: DS1722U+-ND
footprint RM-8_MSOP-8
pins: 1 Vddd, 2 CE (in), 3 SCLK (in), 4 GND, 5 SDO (out), 6 SDI (in), 7 SERMODE (in), 8 Vdda

## DS2401Z+
designator U?
Silicon Serial Number SOT-223; Manufacturer: Maxim; TPN: 156-7024-01; Manufacturer PN: DS2401Z+; Supplier 1: Newark; Supplier 2: Mouser; Supplier 3: Digi-Key; Supplier Part Number 1: 03K9133; Supplier Part Number 2: 700-DS2401Z; Supplier Part Number 3: DS2401Z+T&RCT-ND
footprint MaximSOT223 (SOT223, 4-Leads, Body 6.7x7.3mm (max), Pitch 2.30mm, IPC Medium Density)
pins: 1 DQ, 2 Gnd, 4 Gnd
text: Si SerialNum

## DZ_5.1V_SOT23
designator D?, comment MMBZ5231BLT1
Diode, Zener 5.1V 225mW SOT-23; Manufacturer: ON Semiconductor; Manufacturer PN: MMBZ5231BLT1G/T3G; tpn: 152-5023-00; ComponentLink1Description: Datasheet; ComponentLink1URL: http://www.onsemi.com/pub_link/Collateral/MMBZ5221BLT1-D.PDF; Supplier 1: Digi-Key; Supplier Part Number 1: MMBZ5231BLT1GOSCT-ND
footprint SOT23
pins: 1 A, 2 K

## FB_8F0121-0SR-10
designator L?
Ferrite, 48oh, 10A, 3x4mm; ComponentLink1Description: Datasheet; ComponentLink1URL: http://www.tdk.co.jp/tefe02/e9413_mpz.pdf; Supplier 1: Newark; Supplier 2: Digi-Key; Supplier Part Number 1: 26C2847; Supplier Part Number 2: 240-2435-1-ND
footprint FB_28F0121-0SR-10 (Molded Inductor, 2-Leads, Body 4.5x3.1mm, IPC Medium Density)
pins: 1, 2

## FT230X
designator U?
USB to Basic UART
footprint SOP63P600X175-16N (SOP, 16-Leads, Body 5.0x4.0mm (max), Pitch 0.63mm, IPC Medium Density)
pins: 1 TXD, 2 ~{RTS}, 3 VCCIO, 4 RXD, 5 GND, 6 ~{CTS}, 7 CBUS2, 8 USBP, 9 USBM, 10 3V3OUT, 11 ~{RST}, 12 VCC, 13 GND, 14 CBUS1, 15 CBUS0, 16 CBUS3

## HDR1x2
designator J?
CONN HEADER 2POS .100 STR TIN; Manufacturer: FCI; Manufacturer PN: 68000-102HLF; ComponentLink1Description: Datasheet; ComponentLink1URL: http://portal.fciconnect.com/Comergent/fci/drawing/68000.pdf; Supplier 1: Newark; Supplier Part Number 1: 53K1467; Supplier 2: Mouser; Supplier Part Number 2: 649-68000-102H; Supplier 3: Digi-Key; Supplier Part Number 3: 609-3500-ND
footprint HDR1X2_0.1 (HEADER 2POS 1ROW .100 STR)
pins: 1, 2

## HDR1x3
designator J?
CONN HEADER 3POS .100 STR TIN; Manufacturer: FCI; Manufacturer PN: 68000-103HLF; ComponentLink1Description: Datasheet; ComponentLink1URL: http://portal.fciconnect.com/Comergent/fci/drawing/68000.pdf; Supplier 1: Digi-Key; Supplier Part Number 1: 609-3461-ND; Supplier 2: Mouser; Supplier Part Number 2: 649-68000-103HLF; Supplier 3: Newark; Supplier Part Number 3: 88K1775
footprint HDR1X3_0.1 (HEADER 3POS 1ROW .100 STR)
pins: 1, 2, 3

## HDR1x8
designator J?
CONN HEADER 8POS .100 STR TIN; Manufacturer: FCI; Manufacturer PN: 68000-408HLF; ComponentLink1Description: Datasheet; ComponentLink1URL: http://portal.fciconnect.com/Comergent/fci/drawing/68000.pdf; Supplier 1: Newark; Supplier 2: Digi-Key; Supplier 3: Mouser; Supplier Part Number 1: 20M2219; Supplier Part Number 2: 609-3264-ND; Supplier Part Number 3: 649-68000-408HLF
footprint HDR1X8_0.1 (HEADER 8POS 1ROW .100 STR)
pins: 1, 2, 3, 4, 5, 6, 7, 8
text: Header .1"  8 pos

## HDR2MM_2X7_THRUHOLE
designator J?, comment HDR_2MM_2X7_THRU
CONN HEADER 14POS 2MM VERT GOLD; ComponentLink1Description: Datasheet; ComponentLink1URL: http://www.molex.com/pdm_docs/sd/878311420_sd.pdf; Supplier 1: Digi-Key; Supplier 2: Newark; Supplier Part Number 1: WM17469-ND; Supplier Part Number 2: 52M1994
footprint HDR_2MM_2X7_THRU (Header 2mm 14-pin thru hole)
pins: 1, 2, 3, 4, 5, 6, 7, 8, 9, 10, 11, 12, 13, 14
text: 2mm

## HDR2x5_100mil_THRU
designator J?, comment IDC 10Pin Header TH
IDC BOX HEADER 100mil 10POS THRUHOLE; Manufacturer: CNC Tech; ManufacturerPN: 3020-10-0100-00; ComponentLink1URL: http://cnctech.us/pdfs/3020-XX-0100-00.pdf; ComponentLink1Description: Datasheet; Supplier 1: Digi-Key; Supplier 2: Arrow; Supplier Part Number 1: 1175-1609-ND; Supplier Part Number 2: _HHuLDCwK2R8Lt-LKBB7-lEkSHs-hlbO8eD6aGgr2i4ZVywxIBNyoAQstvnyfZZ0
footprint HDR_5x2_100mil_TH (IDC Box Header 100mil 10pin 5X2 Thruhole)
pins: 1, 2, 3, 4, 5, 6, 7, 8, 9, 10

## HDR2x8_50mil
designator J?, comment HDRBOX_50MIL  (value not drawn)
BOX HEADER, 0.050 16 POS, THRU HOLE; ManufacturerPN: 3220-16-0100-00; Manufacturer: CNC Tech; ComponentLink1URL: http://cnctech.us/pdfs/3220-XX-0100-00.pdf; ComponentLink1Description: Datasheet; Supplier 1: Digi-Key; Supplier Part Number 1: 1175-1633-ND
footprint HDR_50mil_2x8_Box (Box Header 50mil, 16 pos 2x8 Thru hole)
pins: 1, 2, 3, 4, 5, 6, 7, 8, 9, 10, 11, 12, 13, 14, 15, 16

## HDR2x25F
designator J?, comment 68683-325LF
Header 2x25 0.1" Female thru hole; Manufacturer: FCI; ComponentLink1Description: Datasheet; ComponentLink1URL: http://portal.fciconnect.com/Comergent//fci/drawing/68683.pdf; Supplier 1: Digi-Key; Supplier 2: Newark; Supplier Part Number 1: 609-3580-ND; Supplier Part Number 2: 72K3195; Manufacturer PN: 68683-325LF
footprint HDR_0.1_2X25_TH (Header Female 2x25 0.1" Thru Hole)
pins: 1, 2, 3, 4, 5, 6, 7, 8, 9, 10, 11, 12, 13, 14, 15, 16, 17, 18, 19, 20, 21, 22, 23, 24, 25, 26, 27, 28, 29, 30, 31, 32, 33, 34, 35, 36, 37, 38, 39, 40, 41, 42, 43, 44, 45, 46, 47, 48, 49, 50
1 alternate drawing of the same symbol

## HDR3MM_2X7_THRUHOLE
designator 23, comment HDR_3MM_2X7_THRU
CONN HEADER 14POS 3MM R/A GOLD; Manufacturer: Molex; Manufacturer PN: 04030451402; TPN: 131-8637-00; ComponentLink1Description: Datasheet; ComponentLink1URL: http://www.molex.com/pdm_docs/sd/430451402_sd.pdf; Supplier 1: Digi-Key; Supplier Part Number 1: WM4729-ND
footprint MOLEX_2X7_3MM (Molex 43045-1402 Right Angle Header 3mm Pitch)
pins: 1, 2, 3, 4, 5, 6, 7, 8, 9, 10, 11, 12, 13, 14
text: 3mm

## HDR_2X7_100MIL_TH
designator J?, comment HDR_2X7_100MIL_THRU
CONN HEADER 14POS 100MIL VERT GOLD; Manufacturer: CNC Tech; Manufacturer PN: 3020-14-0100-00; ComponentLink1Description: Datasheet; ComponentLink1URL: http://cnctech.us/pdfs/3020-XX-0100-00.pdf; Supplier 1: Digi-Key; Supplier Part Number 1: 1175-1610-ND
footprint HDR_7x2_100mil_TH (IDC Box Header 100mil 10pin 7X2 Thruhole)
pins: 1, 2, 3, 4, 5, 6, 7, 8, 9, 10, 11, 12, 13, 14
text: 100 mil

## HMC850LC3
designator U?
28GBPS 1:2 Fanout Buffer; Manufacturer: Hittite, Inc; TPN: 167-3248-00; Manufacturer PN: HMC850LC3; Supplier 1: Digi-Key; Supplier Part Number 1: 1127-1233-ND; ComponentLink1Description: Datasheet; ComponentLink1URL: https://www.hittite.com/content/documents/data_sheet/hmc850lc3.pdf
footprint HITTITE_LC3
pins: 1 GND, 2 D1P, 3 D1N, 4 GND, 5 GND, 6 INP, 7 INN, 8 GND, 9 GND, 10 D2N, 11 D2P, 12 GND, 13 GND, 14 Vr, 15 Vee, 16 GND, 17 Vee
text: HMC850

## HMC954LC4B
designator U?
Mux 2:1 32Gb/s; Manufacturer: Hittite; ComponentLink1Description: Datasheet; ComponentLink1URL: https://www.hittite.com/content/documents/data_sheet/hmc954lc4b.pdf; Manufacturer PN: HMC954LC4B; Supplier 1: Digi-Key; Supplier Part Number 1: 1127-1261-ND
footprint HITTITE_LC4C (Hittite LC4C 4x4 QFN 24 pin)
pins: 1 Gnd, 2 D1P, 3 D1N, 4 D2P, 5 D2N, 6 Gnd, 8 Gnd, 9 CP, 10 CN, 11 Gnd, 13 Gnd, 16 O1N, 17 O1P, 18 Gnd, 19 Gnd, 20 Vee, 21 VR, 23 Vee, 24 Gnd, 25 Vee
text: 2:1 Mux

## HMC976LP3E
designator U?
HMC976LP3E Low Noise High PSRR LDO 400mA; Manufacturer: Hittite; TPN: 167-2313-00; Supplier 1: Digi-Key; Supplier Part Number 1: 1127-1080-1-ND; ComponentLink1Description: Datasheet; ComponentLink1URL: http://www.hittite.com/content/documents/data_sheet/hmc976lp3.pdf; Manufacturer PN: HMC976LP3E
footprint Hittite_LP3 (Footprint not found)
pins: 1 EN, 2 RD, 3 REF, 4 VRX, 5 HV, 11 VR, 15 VDD, 17 GND

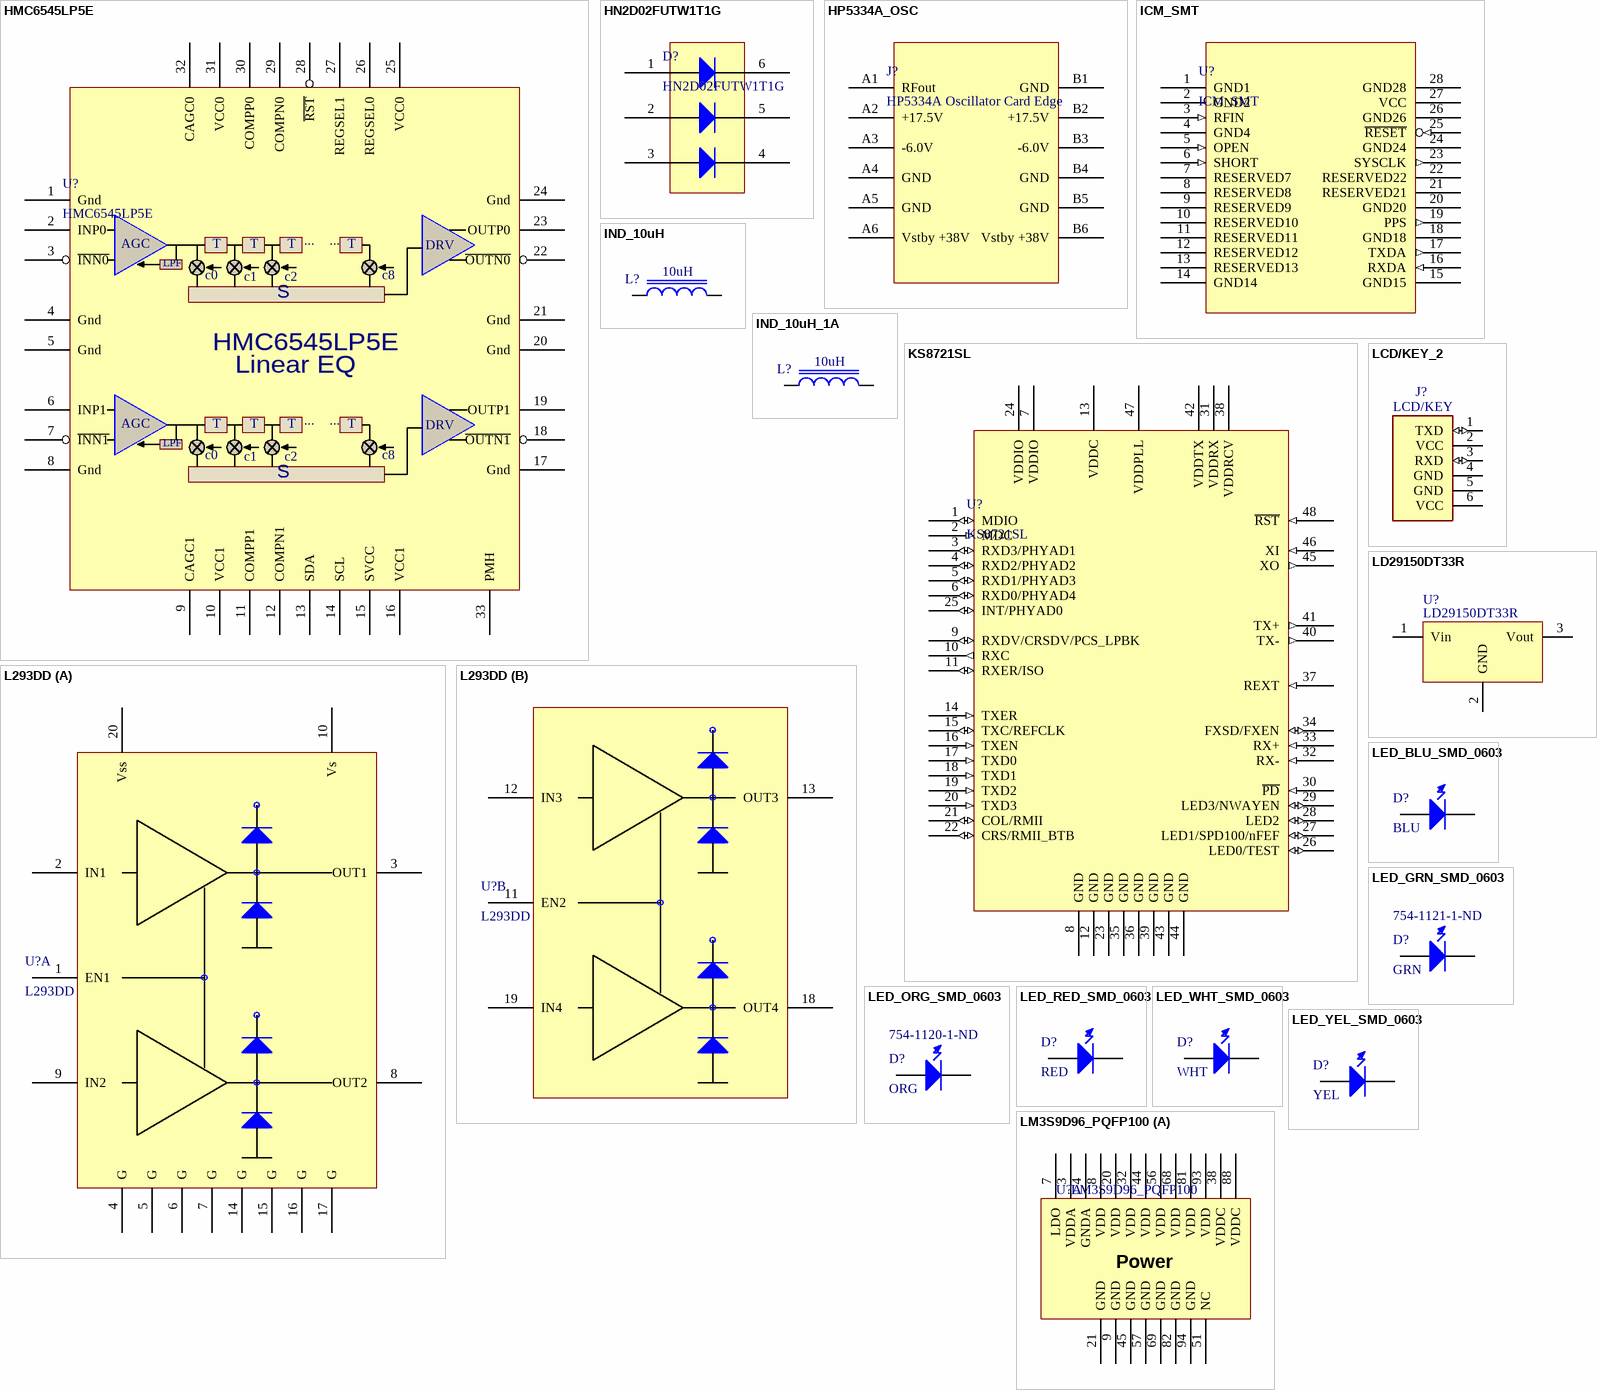
[diagram p3: symbols HMC6545LP5E to LM3S9D96_PQFP100]

## HMC6545LP5E
designator U?
Linear Equalizer; Manufacturer: Hittite; TPN: 167-2557-00; ComponentLink1Description: Datasheet; ComponentLink1URL: http://www.hittite.com/content/documents/data_sheet/hmc6545lp5.pdf; Supplier 1: Hittite; Supplier Part Number 1: HMC6545LP5E; Manufacturer PN: HMC6545LP5E
footprint HITTITE_LP5 (QFN, 32-Leads, Body 5.1x5.1mm (max), Pitch 0.50mm, IPC Medium Density)
pins: 1 Gnd, 2 INP0, 3 ~{INN0}, 4 Gnd, 5 Gnd, 6 INP1, 7 ~{INN1}, 8 Gnd, 9 CAGC1, 10 VCC1, 11 COMPP1, 12 COMPN1, 13 SDA, 14 SCL, 15 SVCC, 16 VCC1, 17 Gnd, 18 ~{OUTN1}, 19 OUTP1, 20 Gnd, 21 Gnd, 22 ~{OUTN0}, 23 OUTP0, 24 Gnd, 25 VCC0, 26 REGSEL0, 27 REGSEL1, 28 ~{RST}, 29 COMPN0, 30 COMPP0, 31 VCC0, 32 CAGC0, 33 PMH
text: AGC; T; ...; DRV; LPF; c0; c1; c2; c8; S; Linear EQ

## HN2D02FUTW1T1G
designator D?
Diode Array, Ultra high hpeed switching; ComponentLink1Description: Datasheet; ComponentLink1URL: http://www.onsemi.com/pub_link/Collateral/HN2D02FUTW1T1-D.PDF; Supplier 1: Newark; Supplier 2: Digi-Key; Supplier Part Number 1: 10N9696; Supplier Part Number 2: HN2D02FUTW1T1GOSCT-ND
footprint SOT363-6 (SOT363, 6-Leads, Body 2.2x1.4mm (max), Pitch 0.65mm, IPC Medium Density)
pins: 1 A, 1, 1 A, 1 A, 2 K, 2, 2 K, 2 K, 3, 4, 5, 6

## HP5334A_OSC
designator J?, comment HP5334A Oscillator Card Edge  (no BOM)
HP5334A OCXO Card Edge Connector; ComponentLink1Description: Datasheet; ComponentLink1URL: http://www.sullinscorp.com/catalogs/67_Page62-63_.156_HP_DS_WW_RA.pdf
footprint HP5334A_OSC_EDGE
pins: A1 RFout, A2 +17.5V, A3 -6.0V, A4 GND, A5 GND, A6 Vstby +38V, B1 GND, B2 +17.5V, B3 -6.0V, B4 GND, B5 GND, B6 Vstby +38V

## ICM_SMT
designator U?
GPS Timing Receiver w/DO, Trimble; Manufacturer: Trimble Navigation; Manufacturer PN: ICM-SMT; ComponentLink1Description: Datasheet; ComponentLink1URL: http://trl.trimble.com/docushare/dsweb/Get/Document-577771/ICM_SMT_UG2B_76858-00-ENG.pdf
footprint ICM_SMT
pins: 1 GND1 (power), 2 GND2 (power), 3 RFIN (in), 4 GND4, 5 OPEN (in), 6 SHORT (in), 7 RESERVED7, 8 RESERVED8, 9 RESERVED9, 10 RESERVED10, 11 RESERVED11, 12 RESERVED12, 13 RESERVED13, 14 GND14 (power), 15 GND15 (power), 16 RXDA (in), 17 TXDA (out), 18 GND18 (power), 19 PPS (out), 20 GND20 (power), 21 RESERVED21, 22 RESERVED22, 23 SYSCLK (out), 24 GND24 (power), 25 ~{RESET} (in), 26 GND26 (power), 27 VCC (power), 28 GND28 (power)

## IND_10uH
designator L?, comment value 10uH  (hidden comment: LQH32CN100)
FIXED IND 10UH 450MA 300 MOHM; Manufacturer: Murata; Manufacturer PN: LQH32CN100K33L; Current: 300mA; ComponentLink1Description: Datasheet; ComponentLink1URL: http://search.murata.co.jp/Ceramy/image/img/PDF/ENG/L0080S0140LQH32C_23~33.pdf; Supplier 1: Newark; Supplier 2: Digi-Key; Supplier Part Number 1: 38K3981; Supplier Part Number 2: 490-2496-1-ND
footprint MURATALQH32C23 (Murata LQH32C 23 Series Inductors)
pins: 1, 2

## IND_10uH_1A
designator L?, comment value 10uH  (hidden comment: SDR0703-100KL)
FIXED IND 10UH 1A 170 MOHM; Manufacturer: Bourns; ComponentLink1Description: Datasheet; ComponentLink1URL: http://www.bourns.com/docs/Product-Datasheets/SDR0703.pdf; Manufacturer PN: SDR0703-100KL; Current: 1A; Supplier 1: Digi-Key; Supplier 2: Newark; Supplier Part Number 1: SDR0703-100KLCT-ND; Supplier Part Number 2: 14P9684
footprint SDR0703-100KL (Inductor, 10uH 1A)
pins: 1, 2

## KS8721SL
designator U?
Ethernet PHY; ComponentLink1Description: Datasheet; ComponentLink1URL: http://www.micrel.com/_PDF/Ethernet/DS_Digi/ks8721bl-sl.pdf; Supplier 1: Newark; Supplier 2: Digi-Key; Supplier Part Number 1: 27K7644; Supplier Part Number 2: 576-1031-1-ND
footprint SOP127P600-8N (MO-118AA SSOP48)
pins: 1 MDIO (io), 2 MDC (in), 3 RXD3/PHYAD1 (io), 4 RXD2/PHYAD2 (io), 5 RXD1/PHYAD3 (io), 6 RXD0/PHYAD4 (io), 7 VDDIO (power), 8 GND (power), 9 RXDV/CRSDV/PCS_LPBK (io), 10 RXC (out), 11 RXER/ISO (io), 12 GND (power), 13 VDDC (power), 14 TXER (in), 15 TXC/REFCLK (io), 16 TXEN (in), 17 TXD0 (in), 18 TXD1 (in), 19 TXD2 (in), 20 TXD3 (in), 21 COL/RMII (io), 22 CRS/RMII_BTB (io), 23 GND (power), 24 VDDIO (power), 25 INT/PHYAD0 (io), 26 LED0/TEST (io), 27 LED1/SPD100/nFEF (io), 28 LED2 (io), 29 LED3/NWAYEN (io), 30 ~{PD} (in), 31 VDDRX (power), 32 RX- (in), 33 RX+ (in), 34 FXSD/FXEN (io), 35 GND (power), 36 GND (power), 37 REXT (in), 38 VDDRCV (power), 39 GND (power), 40 TX- (out), 41 TX+ (out), 42 VDDTX (power), 43 GND (power), 44 GND (power), 45 XO (out), 46 XI (in), 47 VDDPLL (power), 48 ~{RST} (in)

## L293DD
designator U?
IC MOTOR DRIVER PAR 20-SOIC TTL DRIVE 36V 600MA; Supplier 1: Digi-Key; Supplier Part Number 1: 497-2937-1-ND
footprint SO20W
part A pins: 1 EN1, 2 IN1, 3 OUT1, 4 G, 5 G, 6 G, 7 G, 8 OUT2, 9 IN2, 10 Vs, 14 G, 15 G, 16 G, 17 G, 20 Vss
part B pins: 11 EN2, 12 IN3, 13 OUT3, 18 OUT4, 19 IN4

## LCD/KEY_2
designator J?, comment LCD/KEY
MEM-ISP; JTAG Header 10 pin: CONNECTOR RT 1X6; Part Field 2: MOLEX 70553-0110; Part Field 3: WM4157-ND
footprint HDR2x3
pins: 1 TXD (io), 2 VCC (power), 3 RXD (io), 4 GND (power), 5 GND (power), 6 VCC (power)

## LD29150DT33R
designator U?
Regulator 3.3V LDO; ComponentLink1Description: Datasheet; ComponentLink1URL: http://www.st.com/internet/com/TECHNICAL_RESOURCES/TECHNICAL_LITERATURE/DATASHEET/CD00003403.pdf; Supplier 1: Newark; Supplier 2: Digi-Key; Supplier Part Number 1: 89K1273; Supplier Part Number 2: 497-1496-1-ND
footprint DPAK_3_6.2x6.6 (D-PAK, 3-Pads, Body 6.2x6.6mm (max), IPC Medium Density)
pins: 1 Vin, 2 GND, 3 Vout

## LED_BLU_SMD_0603
designator D?, comment BLU
LED 1.6X0.8MM 470NM BLU CLR SMD; Manufacturer: Kingbright; Manufacturer PN: APT1608QBC/D; ComponentLink1Description: Datasheet; ComponentLink1URL: http://www.us.kingbright.com/images/catalog/SPEC/APT1608SURCK.pdf; Supplier 1: Newark; Supplier Part Number 1: 75R0580; Supplier 2: Allied; Supplier Part Number 2: 70232071; Supplier 3: Digi-Key; Supplier Part Number 3: 754-1434-1-ND
footprint KINGBRIGHT_LED (Kingbright APT1608 LED)
pins: 1 A, 2 K

## LED_GRN_SMD_0603
designator D?, comment GRN  Supplier Part Number 3: 754-1121-1-ND
LED 1.6X0.8MM 568NM GRN CLR SMD; Manufacturer: Kingbright; Manufacturer PN: APT1608SGC; ComponentLink1Description: Datasheet; ComponentLink1URL: http://www.us.kingbright.com/images/catalog/SPEC/APT1608SURCK.pdf; Supplier 1: Mouser; Supplier Part Number 1: 604-APT1608SGC; Supplier 2: Newark; Supplier Part Number 2: 75R0578; Supplier 3: Digi-Key
footprint KINGBRIGHT_LED (Kingbright APT1608 LED)
pins: 1 A, 2 K

## LED_ORG_SMD_0603
designator D?, comment ORG  Supplier Part Number 3: 754-1120-1-ND
LED 1.6X0.8MM 601NM ORG CLR SMD; Manufacturer: Kingbright; Manufacturer PN: APT1608SECK; ComponentLink1Description: Datasheet; ComponentLink1URL: http://www.us.kingbright.com/images/catalog/SPEC/APT1608SURCK.pdf; Supplier 1: Newark; Supplier Part Number 1: 75R0574; Supplier 2: Mouser; Supplier Part Number 2: 604-APT1608SECK; Supplier 3: Digi-Key
footprint KINGBRIGHT_LED (Kingbright APT1608 LED)
pins: 1 A, 2 K

## LED_RED_SMD_0603
designator D?, comment RED
LED 1.6X0.8MM 630NM RED CLR SMD; Manufacturer: Kingbright; Manufacturer PN: APT1608SURCK; ComponentLink1Description: Datasheet; ComponentLink1URL: http://www.us.kingbright.com/images/catalog/SPEC/APT1608SURCK.pdf; Supplier 1: Mouser; Supplier Part Number 1: 604-APT1608SURCK; Supplier 2: Digi-Key; Supplier Part Number 2: 754-1123-1-ND; Supplier 3: Newark; Supplier Part Number 3: 75R0573
footprint KINGBRIGHT_LED (Kingbright APT1608 LED)
pins: 1 A, 2 K